# Altium footprint library 2512.PcbLib: 1 footprints
Each footprint in its own frame and in the unit in brackets; x right, y up, seen from the top. Pads: shape width x height; smd on the part's side, far side on the other; paste and mask are expansions set on the pad; w line width, h text height; cw(c..) or ccw(c..) is an arc to the next point about the centre after c.
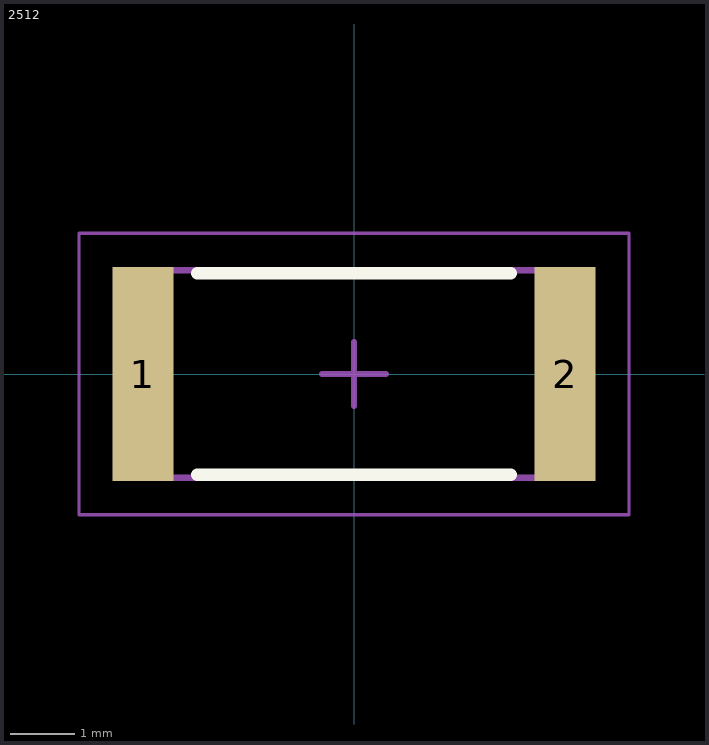
[diagram p0: the footprint, top view; thin cyan lines are the x and y axes]

## 2512 [mm] "Chip Resistor, 2-Leads, Body 6.35x3.10mm, IPC Low Density"
height 0.6
pads (2):
  rect 0.95x3.35 smd: 1(-3.3,0) 2(3.3,0)
Top Overlay:
  lines w0.2: -2.45,-1.575 2.45,-1.575 ; -2.45,1.575 2.45,1.575
Mechanical 13:
  lines w0.1: -3.225,-1.625 3.225,-1.625 3.225,1.625 -3.225,1.625 -3.225,-1.625
Mechanical 15:
  lines w0.05: -4.3,-2.2 4.3,-2.2 4.3,2.2 -4.3,2.2 -4.3,-2.2
  lines w0.1: -0.5,0 0.5,0 ; 0,-0.5 0,0.5
3D body: height 0.6, standoff 0, extent 3.025,-1.625 3.225,1.625
3D body: height 0.6, standoff 0, extent -3.225,-1.625 -3.025,1.625
3D body: height 0.6, standoff 0, extent -3.025,-1.625 3.025,1.625